# Altium integrated library MS621FE.IntLib: 1 symbol
Pins are listed as number, name and electrical type; pins without a type are passive.

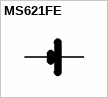
[diagram p0: symbol MS621FE]

## MS621FE
designator B?  (value not drawn)
Value: *
footprint MS621FE_MS621FE(Primary)
pins: +, -